# Altium integrated library TI Interface Display Driver.IntLib: 102 symbols (part 1 of 3)
Pins are listed as number, name and electrical type; pins without a type are passive.

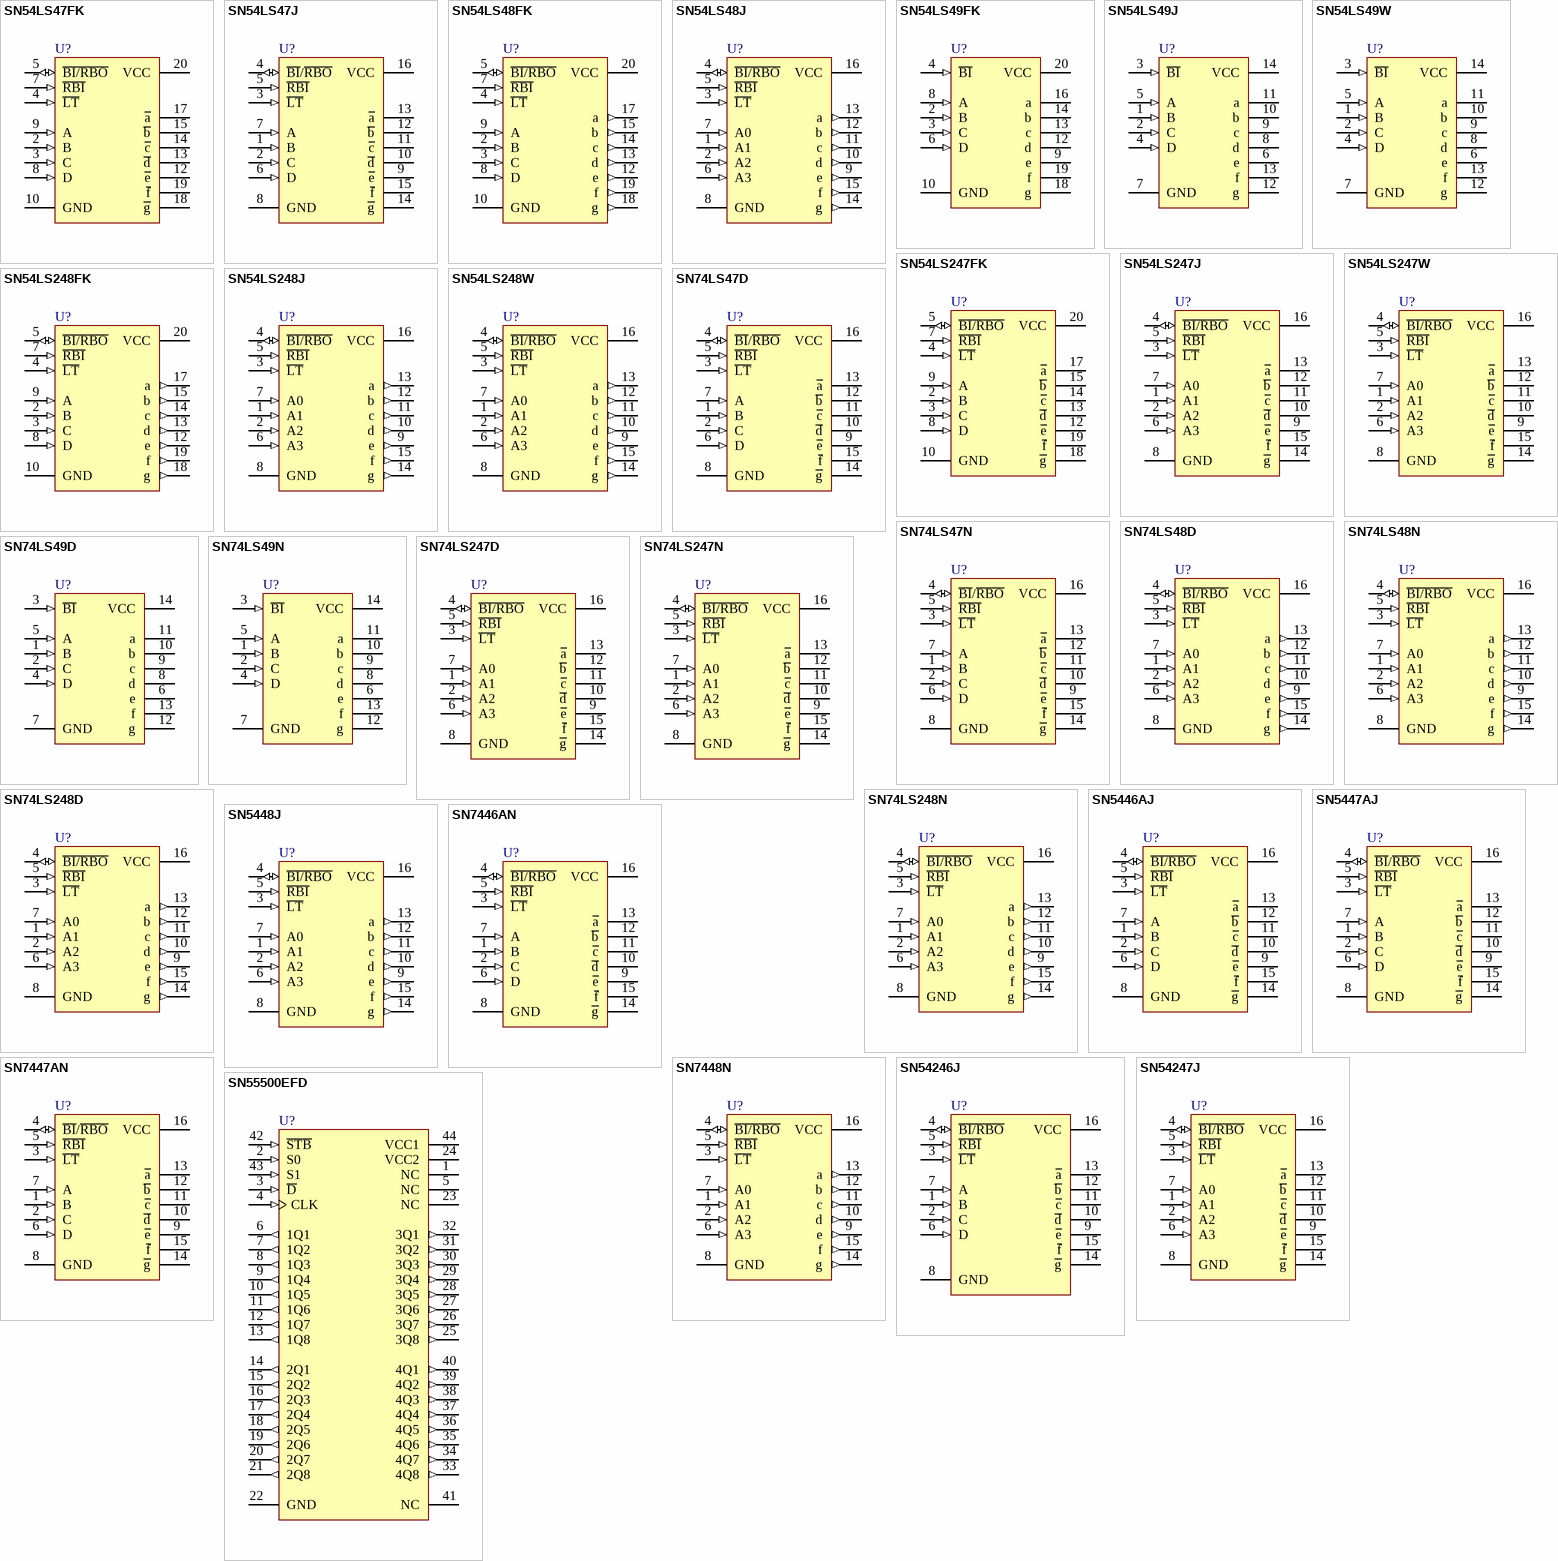
[diagram p0: symbols SN54LS47FK to SN55500EFD]

## SN54LS47FK
designator U?
BCD-to-Seven-Segment Decoder/Driver; Note: Pins 1, 6, 11 and 16 - No Connection and not drawn; Published: 8-Jun-2000; LatestRevisionDate: 29-May-2009; LatestRevisionNote: IPC-7351 Footprint Added.; DatasheetVersion: Mar-1988; PackageVersion: 1998; PackageReference: FK020; Publisher: Altium Limited; PackageDescription: 20-Pin Leadless Chip Carrier 1.27 mm Pitch; Code_JEDEC: MS-004-CB; ComponentLink1Description: Manufacturer Link; ComponentLink1URL: http://www.ti.com/; ComponentLink2Description: Datasheet; ComponentLink2URL: http://www-s.ti.com/sc/ds/sn54ls47.pdf
footprint FK020_N (Leadless Chip Carrier, 20-Leads, Body 8.9x8.9mm, Pitch 1.27mm, IPC Medium Density)
footprint FK020_L (Leadless Chip Carrier, 20-Leads, Body 8.9x8.9mm, Pitch 1.27mm, IPC High Density)
footprint FK020_M (Leadless Chip Carrier, 20-Leads, Body 8.9x8.9mm, Pitch 1.27mm, IPC Low Density)
simulation model SN74LS47 (SIMCODE)
signal-integrity model SN54LS47FK
pins: 2 B (in), 3 C (in), 4 ~{LT} (in), 5 ~{BI/RBO} (io), 7 ~{RBI} (in), 8 D (in), 9 A (in), 10 GND (power), 12 ~{e} (oc), 13 ~{d} (oc), 14 ~{c} (oc), 15 ~{b} (oc), 17 ~{a} (oc), 18 ~{g} (oc), 19 ~{f} (oc), 20 VCC (power)

## SN54LS47J
designator U?
BCD-to-Seven-Segment Decoder/Driver; ComponentAvailability: Obsolete; Published: 8-Jun-2000; LatestRevisionDate: 29-May-2009; LatestRevisionNote: Component Body Added.; DatasheetVersion: Mar-1988; PackageVersion: Jun-1999; PackageReference: J016; Publisher: Altium Limited; PackageDescription: DIP, Ceramic, 16-Pin, Row Spacing 7.62 mm, Pitch 2.54 mm; ComponentLink1Description: Manufacturer Link; ComponentLink1URL: http://www.ti.com/; ComponentLink2Description: Datasheet; ComponentLink2URL: http://www-s.ti.com/sc/ds/sn54ls47.pdf; ComponentLink3Description: URL Link1; ComponentLink3URL: http://focus.ti.com/docs/prod/folders/print/sn54ls47.html
footprint J016 (DIP, 16-Leads, Row Spacing 7.62mm, Pitch 2.54mm, Body 19.56x6.92mm)
3D model J016 (DIP, Ceramic, 16-Pin, Row Spacing 7.62 mm, Pitch 2.54 mm)
simulation model SN74LS47 (SIMCODE)
signal-integrity model SN54LS47J
pins: 1 B (in), 2 C (in), 3 ~{LT} (in), 4 ~{BI}/~{RBO} (io), 5 ~{RBI} (in), 6 D (in), 7 A (in), 8 GND (power), 9 ~{e} (oc), 10 ~{d} (oc), 11 ~{c} (oc), 12 ~{b} (oc), 13 ~{a} (oc), 14 ~{g} (oc), 15 ~{f} (oc), 16 VCC (power)

## SN54LS48FK
designator U?
BCD-to-Seven-Segment Decoder/Driver; Note: Pins 1, 6, 11 and 16 - No Connection and not drawn; Published: 8-Jun-2000; LatestRevisionDate: 29-May-2009; LatestRevisionNote: IPC-7351 Footprint Added.; DatasheetVersion: Mar-1988; PackageVersion: 1998; PackageReference: FK020; Publisher: Altium Limited; PackageDescription: 20-Pin Leadless Chip Carrier 1.27 mm Pitch; Code_JEDEC: MS-004-CB; ComponentLink1Description: Manufacturer Link; ComponentLink1URL: http://www.ti.com/
footprint FK020_N (Leadless Chip Carrier, 20-Leads, Body 8.9x8.9mm, Pitch 1.27mm, IPC Medium Density)
footprint FK020_L (Leadless Chip Carrier, 20-Leads, Body 8.9x8.9mm, Pitch 1.27mm, IPC High Density)
footprint FK020_M (Leadless Chip Carrier, 20-Leads, Body 8.9x8.9mm, Pitch 1.27mm, IPC Low Density)
simulation model SN74LS48 (SIMCODE)
signal-integrity model SN54LS48FK
pins: 2 B (in), 3 C (in), 4 ~{LT} (in), 5 ~{BI/RBO} (io), 7 ~{RBI} (in), 8 D (in), 9 A (in), 10 GND (power), 12 e (out), 13 d (out), 14 c (out), 15 b (out), 17 a (out), 18 g (out), 19 f (out), 20 VCC (power)

## SN54LS48J
designator U?
BCD-to-Seven-Segment Decoder/Driver; ComponentAvailability: Obsolete; Published: 8-Jun-2000; LatestRevisionDate: 29-May-2009; LatestRevisionNote: Component Body Added.; DatasheetVersion: Mar-1988; PackageVersion: Jun-1999; PackageReference: J016; Publisher: Altium Limited; PackageDescription: DIP, Ceramic, 16-Pin, Row Spacing 7.62 mm, Pitch 2.54 mm; ComponentLink1Description: Manufacturer Link; ComponentLink1URL: http://www.ti.com/; ComponentLink2Description: Datasheet; ComponentLink2URL: http://www-s.ti.com/sc/ds/sn54ls48.pdf; ComponentLink3Description: URL Link1; ComponentLink3URL: http://focus.ti.com/docs/prod/folders/print/sn54ls48.html
footprint J016 (DIP, 16-Leads, Row Spacing 7.62mm, Pitch 2.54mm, Body 19.56x6.92mm)
3D model J016 (DIP, Ceramic, 16-Pin, Row Spacing 7.62 mm, Pitch 2.54 mm)
simulation model SN74LS48 (SIMCODE)
signal-integrity model SN54LS48J
pins: 1 A1 (in), 2 A2 (in), 3 ~{LT} (in), 4 ~{BI/RBO} (io), 5 ~{RBI} (in), 6 A3 (in), 7 A0 (in), 8 GND (power), 9 e (out), 10 d (out), 11 c (out), 12 b (out), 13 a (out), 14 g (out), 15 f (out), 16 VCC (power)

## SN54LS49FK
designator U?
BCD-to-Seven-Segment Decoder/Driver; Note: Pins 1, 5, 7, 11, 15 and 17 - No Connection and not drawn; Published: 8-Jun-2000; LatestRevisionDate: 29-May-2009; LatestRevisionNote: IPC-7351 Footprint Added.; DatasheetVersion: Mar-1988; PackageVersion: 1998; PackageReference: FK020; Publisher: Altium Limited; PackageDescription: 20-Pin Leadless Chip Carrier 1.27 mm Pitch; Code_JEDEC: MS-004-CB; ComponentLink1Description: Manufacturer Link; ComponentLink1URL: http://www.ti.com/; ComponentLink2Description: Datasheet; ComponentLink2URL: http://www-s.ti.com/sc/ds/sn54ls49.pdf
footprint FK020_N (Leadless Chip Carrier, 20-Leads, Body 8.9x8.9mm, Pitch 1.27mm, IPC Medium Density)
footprint FK020_L (Leadless Chip Carrier, 20-Leads, Body 8.9x8.9mm, Pitch 1.27mm, IPC High Density)
footprint FK020_M (Leadless Chip Carrier, 20-Leads, Body 8.9x8.9mm, Pitch 1.27mm, IPC Low Density)
signal-integrity model SN54LS49FK
pins: 2 B (in), 3 C (in), 4 ~{BI} (in), 6 D (in), 8 A (in), 9 e (oc), 10 GND (power), 12 d (oc), 13 c (oc), 14 b (oc), 16 a (oc), 18 g (oc), 19 f (oc), 20 VCC (power)

## SN54LS49J
designator U?
BCD-to-Seven-Segment Decoder/Driver; Published: 8-Jun-2000; LatestRevisionDate: 29-May-2009; LatestRevisionNote: Component Body Added.; DatasheetVersion: Mar-1988; PackageVersion: Jun-1999; PackageReference: J014; Publisher: Altium Limited; PackageDescription: DIP, Ceramic, 14-Pin, Row Spacing 7.62 mm, Pitch 2.54 mm; ComponentLink1Description: Manufacturer Link; ComponentLink1URL: http://www.ti.com/; ComponentLink2Description: Datasheet; ComponentLink2URL: http://www-s.ti.com/sc/ds/sn54ls49.pdf; ComponentLink3Description: URL Link1; ComponentLink3URL: http://focus.ti.com/docs/prod/folders/print/sn54ls49.html
footprint J014 (DIP, 14-Leads, Row Spacing 7.62mm, Pitch 2.54mm, Body 19.56x6.92mm)
3D model J014 (DIP, Ceramic, 14-Pin, Row Spacing 7.62 mm, Pitch 2.54 mm)
signal-integrity model SN54LS49J
pins: 1 B (in), 2 C (in), 3 ~{BI} (in), 4 D (in), 5 A (in), 6 e (oc), 7 GND (power), 8 d (oc), 9 c (oc), 10 b (oc), 11 a (oc), 12 g (oc), 13 f (oc), 14 VCC (power)

## SN54LS49W
designator U?
BCD-to-Seven-Segment Decoder/Driver; Published: 8-Jun-2000; LatestRevisionDate: 04-Mar-2005; LatestRevisionNote: Stylized 3D Model Added.; DatasheetVersion: Mar-1988; PackageVersion: Jan-1995; PackageReference: W014; Publisher: Altium Limited; PackageDescription: DFP; 14 Leads; Body 9.9 x 6.6 mm (LxW max); Pitch 1.27 mm; Code_JEDEC: MO-092-AB; ComponentLink1Description: Manufacturer Link; ComponentLink1URL: http://www.ti.com/; ComponentLink2Description: Datasheet; ComponentLink2URL: http://www-s.ti.com/sc/ds/sn54ls49.pdf
footprint W014 (DFP; 14 Leads; Body 9.9 x 6.6 mm (LxW max); Pitch 1.27 mm)
3D model W014 (DFP; 14 Leads; Body 9.9 x 6.6 mm (LxW max); Pitch 1.27 mm)
signal-integrity model SN54LS49W
pins: 1 B (in), 2 C (in), 3 ~{BI} (in), 4 D (in), 5 A (in), 6 e (oc), 7 GND (power), 8 d (oc), 9 c (oc), 10 b (oc), 11 a (oc), 12 g (oc), 13 f (oc), 14 VCC (power)

## SN54LS247FK
designator U?
BCD-to-Seven-Segment Decoder/Driver; Note: Pins 1, 6, 11 and 16 - No Connection and not drawn; ComponentAvailability: Obsolete; Published: 8-Jun-2000; LatestRevisionDate: 29-May-2009; LatestRevisionNote: IPC-7351 Footprint Added.; DatasheetVersion: Mar-1988; PackageVersion: 1998; PackageReference: FK020; Publisher: Altium Limited; PackageDescription: 20-Pin Leadless Chip Carrier 1.27 mm Pitch; Code_JEDEC: MS-004-CB; ComponentLink1Description: Manufacturer Link; ComponentLink1URL: http://www.ti.com/; ComponentLink2Description: Datasheet; ComponentLink2URL: http://www-s.ti.com/sc/ds/sn54ls247.pdf; ComponentLink3Description: URL Link1; ComponentLink3URL: http://focus.ti.com/docs/prod/folders/print/sn54ls247.html
footprint FK020_N (Leadless Chip Carrier, 20-Leads, Body 8.9x8.9mm, Pitch 1.27mm, IPC Medium Density)
footprint FK020_L (Leadless Chip Carrier, 20-Leads, Body 8.9x8.9mm, Pitch 1.27mm, IPC High Density)
footprint FK020_M (Leadless Chip Carrier, 20-Leads, Body 8.9x8.9mm, Pitch 1.27mm, IPC Low Density)
simulation model SN74LS247 (SIMCODE)
signal-integrity model SN54LS247FK
pins: 2 B (in), 3 C (in), 4 ~{LT} (in), 5 ~{BI/RBO} (io), 7 ~{RBI} (in), 8 D (in), 9 A (in), 10 GND (power), 12 ~{e} (oc), 13 ~{d} (oc), 14 ~{c} (oc), 15 ~{b} (oc), 17 ~{a} (oc), 18 ~{g} (oc), 19 ~{f} (oc), 20 VCC (power)

## SN54LS247J
designator U?
BCD-to-Seven-Segment Decoder/Driver; ComponentAvailability: Obsolete; Published: 8-Jun-2000; LatestRevisionDate: 29-May-2009; LatestRevisionNote: Component Body Added.; DatasheetVersion: Mar-1988; PackageVersion: Jun-1999; PackageReference: J016; Publisher: Altium Limited; PackageDescription: DIP, Ceramic, 16-Pin, Row Spacing 7.62 mm, Pitch 2.54 mm; ComponentLink1Description: Manufacturer Link; ComponentLink1URL: http://www.ti.com/; ComponentLink2Description: Datasheet; ComponentLink2URL: http://www-s.ti.com/sc/ds/sn54ls247.pdf; ComponentLink3Description: URL Link1; ComponentLink3URL: http://focus.ti.com/docs/prod/folders/print/sn54ls247.html
footprint J016 (DIP, 16-Leads, Row Spacing 7.62mm, Pitch 2.54mm, Body 19.56x6.92mm)
3D model J016 (DIP, Ceramic, 16-Pin, Row Spacing 7.62 mm, Pitch 2.54 mm)
simulation model SN74LS247 (SIMCODE)
signal-integrity model SN54LS247J
pins: 1 A1 (in), 2 A2 (in), 3 ~{LT} (in), 4 ~{BI/RBO} (io), 5 ~{RBI} (in), 6 A3 (in), 7 A0 (in), 8 GND (power), 9 ~{e} (oc), 10 ~{d} (oc), 11 ~{c} (oc), 12 ~{b} (oc), 13 ~{a} (oc), 14 ~{g} (oc), 15 ~{f} (oc), 16 VCC (power)

## SN54LS247W
designator U?
BCD-to-Seven-Segment Decoder/Driver; ComponentAvailability: Obsolete; Published: 8-Jun-2000; LatestRevisionDate: 04-Mar-2005; LatestRevisionNote: Stylized 3D Model Added.; DatasheetVersion: Mar-1988; PackageVersion: Jan-1995; PackageReference: W016; Publisher: Altium Limited; PackageDescription: DFP; 16 Leads; Body 10.9 x 7.2 mm (LxW max); Pitch 1.27 mm; Code_JEDEC: MO-092-AC; ComponentLink1Description: Manufacturer Link; ComponentLink1URL: http://www.ti.com/; ComponentLink2Description: Datasheet; ComponentLink2URL: http://www-s.ti.com/sc/ds/sn54ls247.pdf; ComponentLink3Description: URL Link1; ComponentLink3URL: http://focus.ti.com/docs/prod/folders/print/sn54ls247.html
footprint W016 (DFP; 16 Leads; Body 10.9 x 7.2 mm (LxW max); Pitch 1.27 mm)
3D model W016 (DFP; 16 Leads; Body 10.9 x 7.2 mm (LxW max); Pitch 1.27 mm)
simulation model SN74LS247 (SIMCODE)
signal-integrity model SN54LS247W
pins: 1 A1 (in), 2 A2 (in), 3 ~{LT} (in), 4 ~{BI/RBO} (io), 5 ~{RBI} (in), 6 A3 (in), 7 A0 (in), 8 GND (power), 9 ~{e} (oc), 10 ~{d} (oc), 11 ~{c} (oc), 12 ~{b} (oc), 13 ~{a} (oc), 14 ~{g} (oc), 15 ~{f} (oc), 16 VCC (power)

## SN54LS248FK
designator U?
BCD-to-Seven-Segment Decoder/Driver; Note: Pins 1, 6, 11 and 16 - No Connection and not drawn; ComponentAvailability: Obsolete; Published: 8-Jun-2000; LatestRevisionDate: 29-May-2009; LatestRevisionNote: IPC-7351 Footprint Added.; DatasheetVersion: Mar-1988; PackageVersion: 1998; PackageReference: FK020; Publisher: Altium Limited; PackageDescription: 20-Pin Leadless Chip Carrier 1.27 mm Pitch; Code_JEDEC: MS-004-CB; ComponentLink1Description: Manufacturer Link; ComponentLink1URL: http://www.ti.com/; ComponentLink2Description: Datasheet; ComponentLink2URL: http://www-s.ti.com/sc/ds/sn54ls247.pdf; ComponentLink3Description: URL Link1; ComponentLink3URL: http://focus.ti.com/docs/prod/folders/print/sn54ls248.html
footprint FK020_N (Leadless Chip Carrier, 20-Leads, Body 8.9x8.9mm, Pitch 1.27mm, IPC Medium Density)
footprint FK020_L (Leadless Chip Carrier, 20-Leads, Body 8.9x8.9mm, Pitch 1.27mm, IPC High Density)
footprint FK020_M (Leadless Chip Carrier, 20-Leads, Body 8.9x8.9mm, Pitch 1.27mm, IPC Low Density)
simulation model SN74LS248 (SIMCODE)
signal-integrity model SN54LS248FK
pins: 2 B (in), 3 C (in), 4 ~{LT} (in), 5 ~{BI/RBO} (io), 7 ~{RBI} (in), 8 D (in), 9 A (in), 10 GND (power), 12 e (out), 13 d (out), 14 c (out), 15 b (out), 17 a (out), 18 g (out), 19 f (out), 20 VCC (power)

## SN54LS248J
designator U?
BCD-to-Seven-Segment Decoder/Driver; ComponentAvailability: Obsolete; Published: 8-Jun-2000; LatestRevisionDate: 29-May-2009; LatestRevisionNote: Component Body Added.; DatasheetVersion: Mar-1988; PackageVersion: Jun-1999; PackageReference: J016; Publisher: Altium Limited; PackageDescription: DIP, Ceramic, 16-Pin, Row Spacing 7.62 mm, Pitch 2.54 mm; ComponentLink1Description: Manufacturer Link; ComponentLink1URL: http://www.ti.com/; ComponentLink2Description: Datasheet; ComponentLink2URL: http://www-s.ti.com/sc/ds/sn54ls247.pdf; ComponentLink3Description: URL Link1; ComponentLink3URL: http://focus.ti.com/docs/prod/folders/print/sn54ls248.html
footprint J016 (DIP, 16-Leads, Row Spacing 7.62mm, Pitch 2.54mm, Body 19.56x6.92mm)
3D model J016 (DIP, Ceramic, 16-Pin, Row Spacing 7.62 mm, Pitch 2.54 mm)
simulation model SN74LS248 (SIMCODE)
signal-integrity model SN54LS248J
pins: 1 A1 (in), 2 A2 (in), 3 ~{LT} (in), 4 ~{BI/RBO} (io), 5 ~{RBI} (in), 6 A3 (in), 7 A0 (in), 8 GND (power), 9 e (out), 10 d (out), 11 c (out), 12 b (out), 13 a (out), 14 g (out), 15 f (out), 16 VCC (power)

## SN54LS248W
designator U?
BCD-to-Seven-Segment Decoder/Driver; ComponentAvailability: Obsolete; Published: 8-Jun-2000; LatestRevisionDate: 04-Mar-2005; LatestRevisionNote: Stylized 3D Model Added.; DatasheetVersion: Mar-1988; PackageVersion: Jan-1995; PackageReference: W016; Publisher: Altium Limited; PackageDescription: DFP; 16 Leads; Body 10.9 x 7.2 mm (LxW max); Pitch 1.27 mm; Code_JEDEC: MO-092-AC; ComponentLink1Description: Manufacturer Link; ComponentLink1URL: http://www.ti.com/; ComponentLink2Description: Datasheet; ComponentLink2URL: http://www-s.ti.com/sc/ds/sn54ls247.pdf; ComponentLink3Description: URL Link1; ComponentLink3URL: http://focus.ti.com/docs/prod/folders/print/sn54ls248.html
footprint W016 (DFP; 16 Leads; Body 10.9 x 7.2 mm (LxW max); Pitch 1.27 mm)
3D model W016 (DFP; 16 Leads; Body 10.9 x 7.2 mm (LxW max); Pitch 1.27 mm)
simulation model SN74LS248 (SIMCODE)
signal-integrity model SN54LS248W
pins: 1 A1 (in), 2 A2 (in), 3 ~{LT} (in), 4 ~{BI/RBO} (io), 5 ~{RBI} (in), 6 A3 (in), 7 A0 (in), 8 GND (power), 9 e (out), 10 d (out), 11 c (out), 12 b (out), 13 a (out), 14 g (out), 15 f (out), 16 VCC (power)

## SN74LS47D
designator U?
BCD-to-Seven-Segment Decoder/Driver; Published: 8-Jun-2000; LatestRevisionDate: 13-Apr-2006; LatestRevisionNote: IPC-7351 Footprint Added.; DatasheetVersion: Mar-1988; PackageVersion: Jan-1998; PackageReference: D016; Publisher: Altium Limited; PackageDescription: 16-Pin Small Outline Integrated Circuit 1.27 mm Pitch; Code_IPC: SOIC127P600-16; ComponentLink1Description: Manufacturer Link; ComponentLink1URL: http://www.ti.com/; ComponentLink2Description: Datasheet; ComponentLink2URL: http://www-s.ti.com/sc/ds/sn74ls47.pdf; ComponentLink3Description: URL Link1; ComponentLink3URL: http://focus.ti.com/docs/prod/folders/print/sn74ls47.html
footprint D016_N (SOIC, 16-Leads, Body 9.9x3.9mm, Pitch 1.27mm, IPC Medium Density)
footprint D016_L (SOIC, 16-Leads, Body 9.9x3.9mm, Pitch 1.27mm, IPC High Density)
footprint D016_M (SOIC, 16-Leads, Body 9.9x3.9mm, Pitch 1.27mm, IPC Low Density)
3D model D016 (16-Pin Small Outline Integrated Circuit 1.27 mm Pitch)
simulation model SN74LS47 (SIMCODE)
signal-integrity model SN74LS47D
pins: 1 B (in), 2 C (in), 3 ~{LT} (in), 4 ~{BI}/~{RBO} (io), 5 ~{RBI} (in), 6 D (in), 7 A (in), 8 GND (power), 9 ~{e} (oc), 10 ~{d} (oc), 11 ~{c} (oc), 12 ~{b} (oc), 13 ~{a} (oc), 14 ~{g} (oc), 15 ~{f} (oc), 16 VCC (power)

## SN74LS47N
designator U?
BCD-to-Seven-Segment Decoder/Driver; Published: 8-Jun-2000; LatestRevisionDate: 29-May-2009; LatestRevisionNote: Component Body Added.; DatasheetVersion: Mar-1988; PackageVersion: Oct-1995; PackageReference: N016; Publisher: Altium Limited; PackageDescription: DIP, 16-Pin, Row Spacing 7.62 mm, Pitch 2.54 mm; Code_JEDEC: MS-001-BB; ComponentLink1Description: Manufacturer Link; ComponentLink1URL: http://www.ti.com/; ComponentLink2Description: Datasheet; ComponentLink2URL: http://www-s.ti.com/sc/ds/sn74ls47.pdf; ComponentLink3Description: URL Link1; ComponentLink3URL: http://focus.ti.com/docs/prod/folders/print/sn74ls47.html
footprint N016 (DIP, 16-Leads, Row Spacing 7.62mm, Pitch 2.54mm, Body 19.31x6.35mm)
3D model N016 (DIP, 16-Pin, Row Spacing 7.62 mm, Pitch 2.54 mm)
simulation model SN74LS47 (SIMCODE)
signal-integrity model SN74LS47N
pins: 1 B (in), 2 C (in), 3 ~{LT} (in), 4 ~{BI}/~{RBO} (io), 5 ~{RBI} (in), 6 D (in), 7 A (in), 8 GND (power), 9 ~{e} (oc), 10 ~{d} (oc), 11 ~{c} (oc), 12 ~{b} (oc), 13 ~{a} (oc), 14 ~{g} (oc), 15 ~{f} (oc), 16 VCC (power)

## SN74LS48D
designator U?
BCD-to-Seven-Segment Decoder/Driver; Published: 8-Jun-2000; LatestRevisionDate: 13-Apr-2006; LatestRevisionNote: IPC-7351 Footprint Added.; DatasheetVersion: Mar-1988; PackageVersion: Jan-1998; PackageReference: D016; Publisher: Altium Limited; PackageDescription: 16-Pin Small Outline Integrated Circuit 1.27 mm Pitch; Code_IPC: SOIC127P600-16; ComponentLink1Description: Manufacturer Link; ComponentLink1URL: http://www.ti.com/
footprint D016_N (SOIC, 16-Leads, Body 9.9x3.9mm, Pitch 1.27mm, IPC Medium Density)
footprint D016_L (SOIC, 16-Leads, Body 9.9x3.9mm, Pitch 1.27mm, IPC High Density)
footprint D016_M (SOIC, 16-Leads, Body 9.9x3.9mm, Pitch 1.27mm, IPC Low Density)
3D model D016 (16-Pin Small Outline Integrated Circuit 1.27 mm Pitch)
simulation model SN74LS48 (SIMCODE)
signal-integrity model SN74LS48D
pins: 1 A1 (in), 2 A2 (in), 3 ~{LT} (in), 4 ~{BI/RBO} (io), 5 ~{RBI} (in), 6 A3 (in), 7 A0 (in), 8 GND (power), 9 e (out), 10 d (out), 11 c (out), 12 b (out), 13 a (out), 14 g (out), 15 f (out), 16 VCC (power)

## SN74LS48N
designator U?
BCD-to-Seven-Segment Decoder/Driver; Published: 8-Jun-2000; LatestRevisionDate: 29-May-2009; LatestRevisionNote: Component Body Added.; DatasheetVersion: Mar-1988; PackageVersion: Oct-1995; PackageReference: N016D; Publisher: Altium Limited; PackageDescription: DIP, 16-Pin, Row Spacing 7.62 mm, Pitch 2.54 mm; Code_JEDEC: MS-001-BB; ComponentLink1Description: Manufacturer Link; ComponentLink1URL: http://www.ti.com/
footprint N016D (DIP, 16-Leads, Row Spacing 7.62mm, Pitch 2.54mm, Body 19.31x6.35mm)
3D model N016 (DIP, 16-Pin, Row Spacing 7.62 mm, Pitch 2.54 mm)
simulation model SN74LS48 (SIMCODE)
signal-integrity model SN74LS48N
pins: 1 A1 (in), 2 A2 (in), 3 ~{LT} (in), 4 ~{BI/RBO} (io), 5 ~{RBI} (in), 6 A3 (in), 7 A0 (in), 8 GND (power), 9 e (out), 10 d (out), 11 c (out), 12 b (out), 13 a (out), 14 g (out), 15 f (out), 16 VCC (power)

## SN74LS49D
designator U?
BCD-to-Seven-Segment Decoder/Driver; Published: 8-Jun-2000; LatestRevisionDate: 13-Apr-2006; LatestRevisionNote: IPC-7351 Footprint Added.; DatasheetVersion: Mar-1988; PackageVersion: Nov-2006; PackageReference: D014; Publisher: Altium Limited; PackageDescription: 14-Pin Small Outline Integrated Circuit 1.27 mm Pitch; Code_JEDEC: MS-012-AB; Code_IPC: SOIC127P600-14; ComponentLink1Description: Manufacturer Link; ComponentLink1URL: http://www.ti.com/; ComponentLink2Description: Datasheet; ComponentLink2URL: http://www-s.ti.com/sc/ds/sn74ls49.pdf; ComponentLink3Description: URL Link1; ComponentLink3URL: http://focus.ti.com/docs/prod/folders/print/sn74ls49.html
footprint D014_N (SOIC, 14-Leads, Body 8.7x3.9mm, Pitch 1.27mm, IPC Medium Density)
footprint D014_L (SOIC, 14-Leads, Body 8.7x3.9mm, Pitch 1.27mm, IPC High Density)
footprint D014_M (SOIC, 14-Leads, Body 8.7x3.9mm, Pitch 1.27mm, IPC Low Density)
3D model D014 (14-Pin Small Outline Integrated Circuit 1.27 mm Pitch)
signal-integrity model SN74LS49D
pins: 1 B (in), 2 C (in), 3 ~{BI} (in), 4 D (in), 5 A (in), 6 e (oc), 7 GND (power), 8 d (oc), 9 c (oc), 10 b (oc), 11 a (oc), 12 g (oc), 13 f (oc), 14 VCC (power)

## SN74LS49N
designator U?
BCD-to-Seven-Segment Decoder/Driver; Published: 8-Jun-2000; LatestRevisionDate: 29-May-2009; LatestRevisionNote: Component Body Added.; DatasheetVersion: Mar-1988; PackageVersion: Oct-1995; PackageReference: N014; Publisher: Altium Limited; PackageDescription: DIP, 14-Pin, Row Spacing 7.62 mm, Pitch 2.54 mm; ComponentLink1Description: Manufacturer Link; ComponentLink1URL: http://www.ti.com/; ComponentLink2Description: Datasheet; ComponentLink2URL: http://www-s.ti.com/sc/ds/sn74ls49.pdf; ComponentLink3Description: URL Link1; ComponentLink3URL: http://focus.ti.com/docs/prod/folders/print/sn74ls49.html
footprint N014 (DIP, 14-Leads, Row Spacing 7.62mm, Pitch 2.54mm, Body 19.31x6.35mm)
3D model N014 (DIP, 14-Pin, Row Spacing 7.62 mm, Pitch 2.54 mm)
signal-integrity model SN74LS49N
pins: 1 B (in), 2 C (in), 3 ~{BI} (in), 4 D (in), 5 A (in), 6 e (oc), 7 GND (power), 8 d (oc), 9 c (oc), 10 b (oc), 11 a (oc), 12 g (oc), 13 f (oc), 14 VCC (power)

## SN74LS247D
designator U?
BCD-to-Seven-Segment Decoder/Driver; Published: 8-Jun-2000; LatestRevisionDate: 13-Apr-2006; LatestRevisionNote: IPC-7351 Footprint Added.; DatasheetVersion: Mar-1988; PackageVersion: Jan-1998; PackageReference: D016; Publisher: Altium Limited; PackageDescription: 16-Pin Small Outline Integrated Circuit 1.27 mm Pitch; Code_IPC: SOIC127P600-16; ComponentLink1Description: Manufacturer Link; ComponentLink1URL: http://www.ti.com/; ComponentLink2Description: Datasheet; ComponentLink2URL: http://www-s.ti.com/sc/ds/sn54ls247.pdf; ComponentLink3Description: URL Link1; ComponentLink3URL: http://focus.ti.com/docs/prod/folders/print/sn74ls247.html
footprint D016_N (SOIC, 16-Leads, Body 9.9x3.9mm, Pitch 1.27mm, IPC Medium Density)
footprint D016_L (SOIC, 16-Leads, Body 9.9x3.9mm, Pitch 1.27mm, IPC High Density)
footprint D016_M (SOIC, 16-Leads, Body 9.9x3.9mm, Pitch 1.27mm, IPC Low Density)
3D model D016 (16-Pin Small Outline Integrated Circuit 1.27 mm Pitch)
simulation model SN74LS247 (SIMCODE)
signal-integrity model SN74LS247D
pins: 1 A1 (in), 2 A2 (in), 3 ~{LT} (in), 4 ~{BI/RBO} (io), 5 ~{RBI} (in), 6 A3 (in), 7 A0 (in), 8 GND (power), 9 ~{e} (oc), 10 ~{d} (oc), 11 ~{c} (oc), 12 ~{b} (oc), 13 ~{a} (oc), 14 ~{g} (oc), 15 ~{f} (oc), 16 VCC (power)

## SN74LS247N
designator U?
BCD-to-Seven-Segment Decoder/Driver; Published: 8-Jun-2000; LatestRevisionDate: 29-May-2009; LatestRevisionNote: Component Body Added.; DatasheetVersion: Mar-1988; PackageVersion: Oct-1995; PackageReference: N016; Publisher: Altium Limited; PackageDescription: DIP, 16-Pin, Row Spacing 7.62 mm, Pitch 2.54 mm; Code_JEDEC: MS-001-BB; ComponentLink1Description: Manufacturer Link; ComponentLink1URL: http://www.ti.com/; ComponentLink2Description: Datasheet; ComponentLink2URL: http://www-s.ti.com/sc/ds/sn54ls247.pdf; ComponentLink3Description: URL Link1; ComponentLink3URL: http://focus.ti.com/docs/prod/folders/print/sn74ls247.html
footprint N016 (DIP, 16-Leads, Row Spacing 7.62mm, Pitch 2.54mm, Body 19.31x6.35mm)
3D model N016 (DIP, 16-Pin, Row Spacing 7.62 mm, Pitch 2.54 mm)
simulation model SN74LS247 (SIMCODE)
signal-integrity model SN74LS247N
pins: 1 A1 (in), 2 A2 (in), 3 ~{LT} (in), 4 ~{BI/RBO} (io), 5 ~{RBI} (in), 6 A3 (in), 7 A0 (in), 8 GND (power), 9 ~{e} (oc), 10 ~{d} (oc), 11 ~{c} (oc), 12 ~{b} (oc), 13 ~{a} (oc), 14 ~{g} (oc), 15 ~{f} (oc), 16 VCC (power)

## SN74LS248D
designator U?
BCD-to-Seven-Segment Decoder/Driver; Published: 8-Jun-2000; LatestRevisionDate: 13-Apr-2006; LatestRevisionNote: IPC-7351 Footprint Added.; DatasheetVersion: Mar-1988; PackageVersion: Jan-1998; PackageReference: D016; Publisher: Altium Limited; PackageDescription: 16-Pin Small Outline Integrated Circuit 1.27 mm Pitch; Code_IPC: SOIC127P600-16; ComponentLink1Description: Manufacturer Link; ComponentLink1URL: http://www.ti.com/; ComponentLink2Description: Datasheet; ComponentLink2URL: http://www-s.ti.com/sc/ds/sn54ls247.pdf; ComponentLink3Description: URL Link1; ComponentLink3URL: http://focus.ti.com/docs/prod/folders/print/sn74ls248.html
footprint D016_N (SOIC, 16-Leads, Body 9.9x3.9mm, Pitch 1.27mm, IPC Medium Density)
footprint D016_L (SOIC, 16-Leads, Body 9.9x3.9mm, Pitch 1.27mm, IPC High Density)
footprint D016_M (SOIC, 16-Leads, Body 9.9x3.9mm, Pitch 1.27mm, IPC Low Density)
3D model D016 (16-Pin Small Outline Integrated Circuit 1.27 mm Pitch)
simulation model SN74LS248 (SIMCODE)
signal-integrity model SN74LS248D
pins: 1 A1 (in), 2 A2 (in), 3 ~{LT} (in), 4 ~{BI/RBO} (io), 5 ~{RBI} (in), 6 A3 (in), 7 A0 (in), 8 GND (power), 9 e (out), 10 d (out), 11 c (out), 12 b (out), 13 a (out), 14 g (out), 15 f (out), 16 VCC (power)

## SN74LS248N
designator U?
BCD-to-Seven-Segment Decoder/Driver; ComponentAvailability: Obsolete; Published: 8-Jun-2000; LatestRevisionDate: 29-May-2009; LatestRevisionNote: Component Body Added.; DatasheetVersion: Mar-1988; PackageVersion: Oct-1995; PackageReference: N016; Publisher: Altium Limited; PackageDescription: DIP, 16-Pin, Row Spacing 7.62 mm, Pitch 2.54 mm; Code_JEDEC: MS-001-BB; ComponentLink1Description: Manufacturer Link; ComponentLink1URL: http://www.ti.com/; ComponentLink2Description: Datasheet; ComponentLink2URL: http://www-s.ti.com/sc/ds/sn54ls247.pdf; ComponentLink3Description: URL Link1; ComponentLink3URL: http://focus.ti.com/docs/prod/folders/print/sn74ls248.html
footprint N016 (DIP, 16-Leads, Row Spacing 7.62mm, Pitch 2.54mm, Body 19.31x6.35mm)
3D model N016 (DIP, 16-Pin, Row Spacing 7.62 mm, Pitch 2.54 mm)
simulation model SN74LS248 (SIMCODE)
signal-integrity model SN74LS248N
pins: 1 A1 (in), 2 A2 (in), 3 ~{LT} (in), 4 ~{BI/RBO} (io), 5 ~{RBI} (in), 6 A3 (in), 7 A0 (in), 8 GND (power), 9 e (out), 10 d (out), 11 c (out), 12 b (out), 13 a (out), 14 g (out), 15 f (out), 16 VCC (power)

## SN5446AJ
designator U?
BCD-to-Seven-Segment Decoder/Driver; ComponentAvailability: Obsolete; Published: 8-Jun-2000; LatestRevisionDate: 29-May-2009; LatestRevisionNote: Component Body Added.; DatasheetVersion: Mar-1988; PackageVersion: Jun-1999; PackageReference: J016; Publisher: Altium Limited; PackageDescription: DIP, Ceramic, 16-Pin, Row Spacing 7.62 mm, Pitch 2.54 mm; ComponentLink1Description: Manufacturer Link; ComponentLink1URL: http://www.ti.com/; ComponentLink2Description: Datasheet; ComponentLink2URL: http://www-s.ti.com/sc/ds/sn5446a.pdf; ComponentLink3Description: URL Link1; ComponentLink3URL: http://focus.ti.com/docs/prod/folders/print/sn5446a.html
footprint J016 (DIP, 16-Leads, Row Spacing 7.62mm, Pitch 2.54mm, Body 19.56x6.92mm)
3D model J016 (DIP, Ceramic, 16-Pin, Row Spacing 7.62 mm, Pitch 2.54 mm)
signal-integrity model SN5446AJ
pins: 1 B (in), 2 C (in), 3 ~{LT} (in), 4 ~{BI/RBO} (io), 5 ~{RBI} (in), 6 D (in), 7 A (in), 8 GND (power), 9 ~{e} (oc), 10 ~{d} (oc), 11 ~{c} (oc), 12 ~{b} (oc), 13 ~{a} (oc), 14 ~{g} (oc), 15 ~{f} (oc), 16 VCC (power)

## SN5447AJ
designator U?
BCD-to-Seven-Segment Decoder/Driver; Published: 8-Jun-2000; LatestRevisionDate: 29-May-2009; LatestRevisionNote: Component Body Added.; DatasheetVersion: Mar-1988; PackageVersion: Jun-1999; PackageReference: J016; Publisher: Altium Limited; PackageDescription: DIP, Ceramic, 16-Pin, Row Spacing 7.62 mm, Pitch 2.54 mm; ComponentLink1Description: Manufacturer Link; ComponentLink1URL: http://www.ti.com/; ComponentLink2Description: Datasheet; ComponentLink2URL: http://www-s.ti.com/sc/ds/sn5447a.pdf
footprint J016 (DIP, 16-Leads, Row Spacing 7.62mm, Pitch 2.54mm, Body 19.56x6.92mm)
3D model J016 (DIP, Ceramic, 16-Pin, Row Spacing 7.62 mm, Pitch 2.54 mm)
signal-integrity model SN5447AJ
pins: 1 B (in), 2 C (in), 3 ~{LT} (in), 4 ~{BI}/~{RBO} (io), 5 ~{RBI} (in), 6 D (in), 7 A (in), 8 GND (power), 9 ~{e} (oc), 10 ~{d} (oc), 11 ~{c} (oc), 12 ~{b} (oc), 13 ~{a} (oc), 14 ~{g} (oc), 15 ~{f} (oc), 16 VCC (power)

## SN5448J
designator U?
BCD-to-Seven-Segment Decoder/Driver; Published: 8-Jun-2000; LatestRevisionDate: 29-May-2009; LatestRevisionNote: Component Body Added.; DatasheetVersion: Mar-1988; PackageVersion: Jun-1999; PackageReference: J016; Publisher: Altium Limited; PackageDescription: DIP, Ceramic, 16-Pin, Row Spacing 7.62 mm, Pitch 2.54 mm; ComponentLink1Description: Manufacturer Link; ComponentLink1URL: http://www.ti.com/; ComponentLink2Description: Datasheet; ComponentLink2URL: http://www-s.ti.com/sc/ds/sn5448.pdf; ComponentLink3Description: URL Link1; ComponentLink3URL: http://focus.ti.com/docs/prod/folders/print/sn5448.html
footprint J016 (DIP, 16-Leads, Row Spacing 7.62mm, Pitch 2.54mm, Body 19.56x6.92mm)
3D model J016 (DIP, Ceramic, 16-Pin, Row Spacing 7.62 mm, Pitch 2.54 mm)
signal-integrity model SN5448J
pins: 1 A1 (in), 2 A2 (in), 3 ~{LT} (in), 4 ~{BI/RBO} (io), 5 ~{RBI} (in), 6 A3 (in), 7 A0 (in), 8 GND (power), 9 e (out), 10 d (out), 11 c (out), 12 b (out), 13 a (out), 14 g (out), 15 f (out), 16 VCC (power)

## SN7446AN
designator U?
BCD-to-Seven-Segment Decoder/Driver; ComponentAvailability: Obsolete; Published: 8-Jun-2000; LatestRevisionDate: 29-May-2009; LatestRevisionNote: Component Body Added.; DatasheetVersion: Mar-1988; PackageVersion: Oct-1995; PackageReference: N016; Publisher: Altium Limited; PackageDescription: DIP, 16-Pin, Row Spacing 7.62 mm, Pitch 2.54 mm; Code_JEDEC: MS-001-BB; ComponentLink1Description: Manufacturer Link; ComponentLink1URL: http://www.ti.com/; ComponentLink2Description: Datasheet; ComponentLink2URL: http://www-s.ti.com/sc/ds/sn7446a.pdf; ComponentLink3Description: URL Link1; ComponentLink3URL: http://focus.ti.com/docs/prod/folders/print/sn7446a.html
footprint N016 (DIP, 16-Leads, Row Spacing 7.62mm, Pitch 2.54mm, Body 19.31x6.35mm)
3D model N016 (DIP, 16-Pin, Row Spacing 7.62 mm, Pitch 2.54 mm)
signal-integrity model SN7446AN
pins: 1 B (in), 2 C (in), 3 ~{LT} (in), 4 ~{BI/RBO} (io), 5 ~{RBI} (in), 6 D (in), 7 A (in), 8 GND (power), 9 ~{e} (oc), 10 ~{d} (oc), 11 ~{c} (oc), 12 ~{b} (oc), 13 ~{a} (oc), 14 ~{g} (oc), 15 ~{f} (oc), 16 VCC (power)

## SN7447AN
designator U?
BCD-to-Seven-Segment Decoder/Driver; Published: 8-Jun-2000; LatestRevisionDate: 29-May-2009; LatestRevisionNote: Component Body Added.; DatasheetVersion: Mar-1988; PackageVersion: Oct-1995; PackageReference: N016; Publisher: Altium Limited; PackageDescription: DIP, 16-Pin, Row Spacing 7.62 mm, Pitch 2.54 mm; Code_JEDEC: MS-001-BB; ComponentLink1Description: Manufacturer Link; ComponentLink1URL: http://www.ti.com/; ComponentLink2Description: Datasheet; ComponentLink2URL: http://www-s.ti.com/sc/ds/sn7447a.pdf; ComponentLink3Description: URL Link1; ComponentLink3URL: http://focus.ti.com/docs/prod/folders/print/sn7447a.html
footprint N016 (DIP, 16-Leads, Row Spacing 7.62mm, Pitch 2.54mm, Body 19.31x6.35mm)
3D model N016 (DIP, 16-Pin, Row Spacing 7.62 mm, Pitch 2.54 mm)
signal-integrity model SN7447AN
pins: 1 B (in), 2 C (in), 3 ~{LT} (in), 4 ~{BI}/~{RBO} (io), 5 ~{RBI} (in), 6 D (in), 7 A (in), 8 GND (power), 9 ~{e} (oc), 10 ~{d} (oc), 11 ~{c} (oc), 12 ~{b} (oc), 13 ~{a} (oc), 14 ~{g} (oc), 15 ~{f} (oc), 16 VCC (power)

## SN7448N
designator U?
BCD-to-Seven-Segment Decoder/Driver; ComponentAvailability: Obsolete; Published: 8-Jun-2000; LatestRevisionDate: 29-May-2009; LatestRevisionNote: Component Body Added.; DatasheetVersion: Mar-1988; PackageVersion: Oct-1995; PackageReference: N016; Publisher: Altium Limited; PackageDescription: DIP, 16-Pin, Row Spacing 7.62 mm, Pitch 2.54 mm; Code_JEDEC: MS-001-BB; ComponentLink1Description: Manufacturer Link; ComponentLink1URL: http://www.ti.com/; ComponentLink2Description: Datasheet; ComponentLink2URL: http://www-s.ti.com/sc/ds/sn7448.pdf; ComponentLink3Description: URL Link1; ComponentLink3URL: http://focus.ti.com/docs/prod/folders/print/sn7448.html
footprint N016 (DIP, 16-Leads, Row Spacing 7.62mm, Pitch 2.54mm, Body 19.31x6.35mm)
3D model N016 (DIP, 16-Pin, Row Spacing 7.62 mm, Pitch 2.54 mm)
signal-integrity model SN7448N
pins: 1 A1 (in), 2 A2 (in), 3 ~{LT} (in), 4 ~{BI/RBO} (io), 5 ~{RBI} (in), 6 A3 (in), 7 A0 (in), 8 GND (power), 9 e (out), 10 d (out), 11 c (out), 12 b (out), 13 a (out), 14 g (out), 15 f (out), 16 VCC (power)

## SN54246J
designator U?
BCD-to-Seven-Segment Decoder/Driver; ComponentAvailability: Obsolete; Published: 8-Jun-2000; LatestRevisionDate: 29-May-2009; LatestRevisionNote: Component Body Added.; DatasheetVersion: Mar-1988; PackageVersion: Jun-1999; PackageReference: J016; Publisher: Altium Limited; PackageDescription: DIP, Ceramic, 16-Pin, Row Spacing 7.62 mm, Pitch 2.54 mm; ComponentLink1Description: Manufacturer Link; ComponentLink1URL: http://www.ti.com/; ComponentLink2Description: Datasheet; ComponentLink2URL: http://www-s.ti.com/sc/ds/sn54ls247.pdf; ComponentLink3Description: URL Link1; ComponentLink3URL: http://focus.ti.com/docs/prod/folders/print/sn54246.html
footprint J016 (DIP, 16-Leads, Row Spacing 7.62mm, Pitch 2.54mm, Body 19.56x6.92mm)
3D model J016 (DIP, Ceramic, 16-Pin, Row Spacing 7.62 mm, Pitch 2.54 mm)
signal-integrity model SN54246J
pins: 1 B (in), 2 C (in), 3 ~{LT} (in), 4 ~{BI/RBO} (io), 5 ~{RBI} (in), 6 D (in), 7 A (in), 8 GND (power), 9 ~{e} (oc), 10 ~{d} (oc), 11 ~{c} (oc), 12 ~{b} (oc), 13 ~{a} (oc), 14 ~{g} (oc), 15 ~{f} (oc), 16 VCC (power)

## SN54247J
designator U?
BCD-to-Seven-Segment Decoder/Driver; ComponentAvailability: Obsolete; Published: 8-Jun-2000; LatestRevisionDate: 29-May-2009; LatestRevisionNote: Component Body Added.; DatasheetVersion: Mar-1988; PackageVersion: Jun-1999; PackageReference: J016; Publisher: Altium Limited; PackageDescription: DIP, Ceramic, 16-Pin, Row Spacing 7.62 mm, Pitch 2.54 mm; ComponentLink1Description: Manufacturer Link; ComponentLink1URL: http://www.ti.com/; ComponentLink2Description: Datasheet; ComponentLink2URL: http://www-s.ti.com/sc/ds/sn54ls247.pdf; ComponentLink3Description: URL Link1; ComponentLink3URL: http://focus.ti.com/docs/prod/folders/print/sn54247.html
footprint J016 (DIP, 16-Leads, Row Spacing 7.62mm, Pitch 2.54mm, Body 19.56x6.92mm)
3D model J016 (DIP, Ceramic, 16-Pin, Row Spacing 7.62 mm, Pitch 2.54 mm)
signal-integrity model SN54247J
pins: 1 A1 (in), 2 A2 (in), 3 ~{LT} (in), 4 ~{BI/RBO} (io), 5 ~{RBI} (in), 6 A3 (in), 7 A0 (in), 8 GND (power), 9 ~{e} (oc), 10 ~{d} (oc), 11 ~{c} (oc), 12 ~{b} (oc), 13 ~{a} (oc), 14 ~{g} (oc), 15 ~{f} (oc), 16 VCC (power)

## SN55500EFD
designator U?
AC Plasma Display Driver; Published: 15-May-2002; DatasheetVersion: May-1990; PackageReference: FD44; Publisher: Altium Limited; PackageDescription: Leadless Chip Carrier; 44 Terminals; Body 16.5 x 16.5 mm; ComponentLink1Description: Manufacturer Link; ComponentLink1URL: http://www.ti.com/
footprint FD44 (Leadless Chip Carrier; 44 Terminals; Body 16.5 x 16.5 mm)
pins: 1 NC, 2 S0 (in), 3 ~{D} (in), 4 CLK (in), 5 NC, 6 1Q1 (out), 7 1Q2 (out), 8 1Q3 (out), 9 1Q4 (out), 10 1Q5 (out), 11 1Q6 (out), 12 1Q7 (out), 13 1Q8 (out), 14 2Q1 (out), 15 2Q2 (out), 16 2Q3 (out), 17 2Q4 (out), 18 2Q5 (out), 19 2Q6 (out), 20 2Q7 (out), 21 2Q8 (out), 22 GND (power), 23 NC, 24 VCC2 (power), 25 3Q8 (out), 26 3Q7 (out), 27 3Q6 (out), 28 3Q5 (out), 29 3Q4 (out), 30 3Q3 (out), 31 3Q2 (out), 32 3Q1 (out), 33 4Q8 (out), 34 4Q7 (out), 35 4Q6 (out), 36 4Q5 (out), 37 4Q4 (out), 38 4Q3 (out), 39 4Q2 (out), 40 4Q1 (out), 41 NC, 42 ~{STB} (in), 43 S1 (in), 44 VCC1 (power)

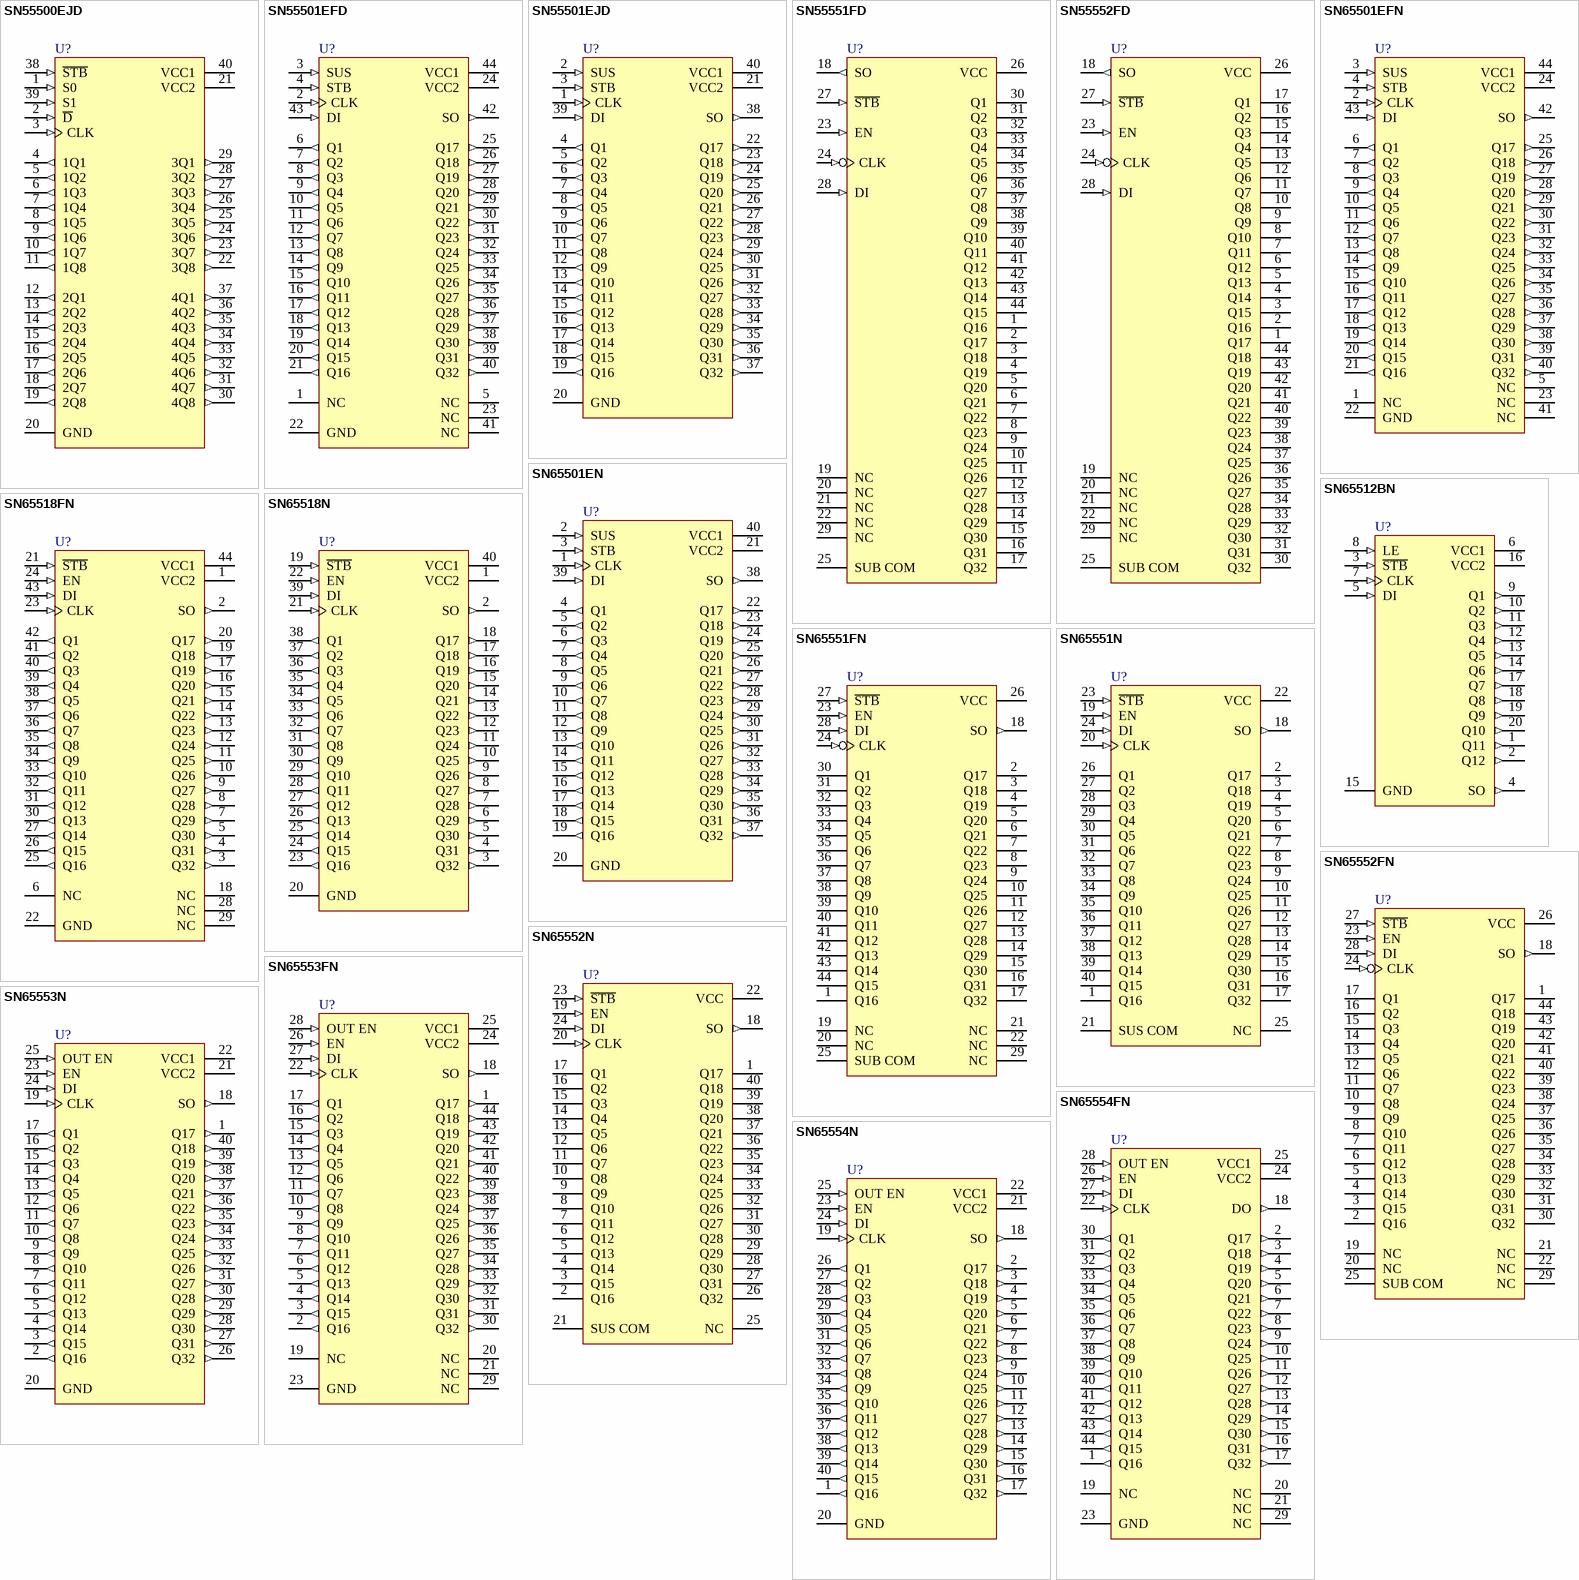
[diagram p1: symbols SN55500EJD to SN65554N]

## SN55500EJD
designator U?
AC Plasma Display Driver; Published: 15-May-2002; LatestRevisionDate: 29-May-2009; LatestRevisionNote: Component Body Added.; DatasheetVersion: May-1990; PackageVersion: Jan-1998; PackageReference: JD040; Publisher: Altium Limited; PackageDescription: DIP, Ceramic, 40-Pin, Row Spacing 15.24 mm, Pitch 2.54 mm; ComponentLink1Description: Manufacturer Link; ComponentLink1URL: http://www.ti.com/
footprint JD040 (DIP, 40-Leads, Row Spacing 15.24mm, Pitch 2.54mm, Body 51.69x15mm)
3D model JD040 (DIP, Ceramic, 40-Pin, Row Spacing 15.24 mm, Pitch 2.54 mm)
pins: 1 S0 (in), 2 ~{D} (in), 3 CLK (in), 4 1Q1 (out), 5 1Q2 (out), 6 1Q3 (out), 7 1Q4 (out), 8 1Q5 (out), 9 1Q6 (out), 10 1Q7 (out), 11 1Q8 (out), 12 2Q1 (out), 13 2Q2 (out), 14 2Q3 (out), 15 2Q4 (out), 16 2Q5 (out), 17 2Q6 (out), 18 2Q7 (out), 19 2Q8 (out), 20 GND (power), 21 VCC2 (power), 22 3Q8 (out), 23 3Q7 (out), 24 3Q6 (out), 25 3Q5 (out), 26 3Q4 (out), 27 3Q3 (out), 28 3Q2 (out), 29 3Q1 (out), 30 4Q8 (out), 31 4Q7 (out), 32 4Q6 (out), 33 4Q5 (out), 34 4Q4 (out), 35 4Q3 (out), 36 4Q2 (out), 37 4Q1 (out), 38 ~{STB} (in), 39 S1 (in), 40 VCC1 (power)

## SN55501EFD
designator U?
AC Plasma Display Driver; Published: 15-May-2002; DatasheetVersion: Dec-1989; PackageReference: FD44; Publisher: Altium Limited; PackageDescription: Leadless Chip Carrier; 44 Terminals; Body 16.5 x 16.5 mm; ComponentLink1Description: Manufacturer Link; ComponentLink1URL: http://www.ti.com/
footprint FD44 (Leadless Chip Carrier; 44 Terminals; Body 16.5 x 16.5 mm)
pins: 1 NC, 2 CLK (in), 3 SUS (in), 4 STB (in), 5 NC, 6 Q1 (out), 7 Q2 (out), 8 Q3 (out), 9 Q4 (out), 10 Q5 (out), 11 Q6 (out), 12 Q7 (out), 13 Q8 (out), 14 Q9 (out), 15 Q10 (out), 16 Q11 (out), 17 Q12 (out), 18 Q13 (out), 19 Q14 (out), 20 Q15 (out), 21 Q16 (out), 22 GND (power), 23 NC, 24 VCC2 (power), 25 Q17 (out), 26 Q18 (out), 27 Q19 (out), 28 Q20 (out), 29 Q21 (out), 30 Q22 (out), 31 Q23 (out), 32 Q24 (out), 33 Q25 (out), 34 Q26 (out), 35 Q27 (out), 36 Q28 (out), 37 Q29 (out), 38 Q30 (out), 39 Q31 (out), 40 Q32 (out), 41 NC, 42 SO (out), 43 DI (in), 44 VCC1 (power)

## SN55501EJD
designator U?
AC Plasma Display Driver; Published: 15-May-2002; LatestRevisionDate: 29-May-2009; LatestRevisionNote: Component Body Added.; DatasheetVersion: Dec-1989; PackageVersion: Jan-1998; PackageReference: JD040; Publisher: Altium Limited; PackageDescription: DIP, Ceramic, 40-Pin, Row Spacing 15.24 mm, Pitch 2.54 mm; ComponentLink1Description: Manufacturer Link; ComponentLink1URL: http://www.ti.com/
footprint JD040 (DIP, 40-Leads, Row Spacing 15.24mm, Pitch 2.54mm, Body 51.69x15mm)
3D model JD040 (DIP, Ceramic, 40-Pin, Row Spacing 15.24 mm, Pitch 2.54 mm)
pins: 1 CLK (in), 2 SUS (in), 3 STB (in), 4 Q1 (out), 5 Q2 (out), 6 Q3 (out), 7 Q4 (out), 8 Q5 (out), 9 Q6 (out), 10 Q7 (out), 11 Q8 (out), 12 Q9 (out), 13 Q10 (out), 14 Q11 (out), 15 Q12 (out), 16 Q13 (out), 17 Q14 (out), 18 Q15 (out), 19 Q16 (out), 20 GND (power), 21 VCC2 (power), 22 Q17 (out), 23 Q18 (out), 24 Q19 (out), 25 Q20 (out), 26 Q21 (out), 27 Q22 (out), 28 Q23 (out), 29 Q24 (out), 30 Q25 (out), 31 Q26 (out), 32 Q27 (out), 33 Q28 (out), 34 Q29 (out), 35 Q30 (out), 36 Q31 (out), 37 Q32 (out), 38 SO (out), 39 DI (in), 40 VCC1 (power)

## SN55551FD
designator U?
Electroluminescent Row Driver; Published: 15-May-2002; DatasheetVersion: Apr-1986; PackageReference: FD44; Publisher: Altium Limited; PackageDescription: Leadless Chip Carrier; 44 Terminals; Body 16.5 x 16.5 mm; ComponentLink1Description: Manufacturer Link; ComponentLink1URL: http://www.ti.com/
footprint FD44 (Leadless Chip Carrier; 44 Terminals; Body 16.5 x 16.5 mm)
pins: 1 Q16 (oc), 2 Q17 (oc), 3 Q18 (oc), 4 Q19 (oc), 5 Q20 (oc), 6 Q21 (oc), 7 Q22 (oc), 8 Q23 (oc), 9 Q24 (oc), 10 Q25 (oc), 11 Q26 (oc), 12 Q27 (oc), 13 Q28 (oc), 14 Q29 (oc), 15 Q30 (oc), 16 Q31 (oc), 17 Q32 (oc), 18 SO (out), 19 NC, 20 NC, 21 NC, 22 NC, 23 EN (in), 24 CLK (in), 25 SUB COM (power), 26 VCC (power), 27 ~{STB} (in), 28 DI (in), 29 NC, 30 Q1 (oc), 31 Q2 (oc), 32 Q3 (oc), 33 Q4 (oc), 34 Q5 (oc), 35 Q6 (oc), 36 Q7 (oc), 37 Q8 (oc), 38 Q9 (oc), 39 Q10 (oc), 40 Q11 (oc), 41 Q12 (oc), 42 Q13 (oc), 43 Q14 (oc), 44 Q15 (oc)

## SN55552FD
designator U?
Electroluminescent Column Driver; Published: 15-May-2002; DatasheetVersion: Apr-1986; PackageReference: FD44; Publisher: Altium Limited; PackageDescription: Leadless Chip Carrier; 44 Terminals; Body 16.5 x 16.5 mm; ComponentLink1Description: Manufacturer Link; ComponentLink1URL: http://www.ti.com/
footprint FD44 (Leadless Chip Carrier; 44 Terminals; Body 16.5 x 16.5 mm)
pins: 1 Q17 (oc), 2 Q16 (oc), 3 Q15 (oc), 4 Q14 (oc), 5 Q13 (oc), 6 Q12 (oc), 7 Q11 (oc), 8 Q10 (oc), 9 Q9 (oc), 10 Q8 (oc), 11 Q7 (oc), 12 Q6 (oc), 13 Q5 (oc), 14 Q4 (oc), 15 Q3 (oc), 16 Q2 (oc), 17 Q1 (oc), 18 SO (out), 19 NC, 20 NC, 21 NC, 22 NC, 23 EN (in), 24 CLK (in), 25 SUB COM (power), 26 VCC (power), 27 ~{STB} (in), 28 DI (in), 29 NC, 30 Q32 (oc), 31 Q31 (oc), 32 Q30 (oc), 33 Q29 (oc), 34 Q28 (oc), 35 Q27 (oc), 36 Q26 (oc), 37 Q25 (oc), 38 Q24 (oc), 39 Q23 (oc), 40 Q22 (oc), 41 Q21 (oc), 42 Q20 (oc), 43 Q19 (oc), 44 Q18 (oc)

## SN65501EFN
designator U?
AC Plasma Display Driver; Published: 15-May-2002; LatestRevisionDate: 13-Apr-2006; LatestRevisionNote: IPC-7351 Footprint Added.; DatasheetVersion: Oct-1989; PackageVersion: Oct-1994; PackageReference: FN044; Publisher: Altium Limited; PackageDescription: 44-Pin Leaded Chip Carrier 1.27 mm Pitch; Code_IPC: PLCC-44; ComponentLink1Description: Manufacturer Link; ComponentLink1URL: http://www.ti.com/
footprint FN044_N (Leaded Chip Carrier, 44-Leads, Body 16.6x16.6mm, Pitch 1.27mm, IPC Medium Density)
footprint FN044_L (Leaded Chip Carrier, 44-Leads, Body 16.6x16.6mm, Pitch 1.27mm, IPC High Density)
footprint FN044_M (Leaded Chip Carrier, 44-Leads, Body 16.6x16.6mm, Pitch 1.27mm, IPC Low Density)
3D model SN65501E-FN044 (44-Pin Leaded Chip Carrier 1.27 mm Pitch)
pins: 1 NC, 2 CLK (in), 3 SUS (in), 4 STB (in), 5 NC, 6 Q1 (out), 7 Q2 (out), 8 Q3 (out), 9 Q4 (out), 10 Q5 (out), 11 Q6 (out), 12 Q7 (out), 13 Q8 (out), 14 Q9 (out), 15 Q10 (out), 16 Q11 (out), 17 Q12 (out), 18 Q13 (out), 19 Q14 (out), 20 Q15 (out), 21 Q16 (out), 22 GND (power), 23 NC, 24 VCC2 (power), 25 Q17 (out), 26 Q18 (out), 27 Q19 (out), 28 Q20 (out), 29 Q21 (out), 30 Q22 (out), 31 Q23 (out), 32 Q24 (out), 33 Q25 (out), 34 Q26 (out), 35 Q27 (out), 36 Q28 (out), 37 Q29 (out), 38 Q30 (out), 39 Q31 (out), 40 Q32 (out), 41 NC, 42 SO (out), 43 DI (in), 44 VCC1 (power)

## SN65501EN
designator U?
AC Plasma Display Driver; Published: 15-May-2002; LatestRevisionDate: 29-May-2009; LatestRevisionNote: Component Body Added.; DatasheetVersion: Oct-1989; PackageVersion: Oct-1994; PackageReference: N040; Publisher: Altium Limited; PackageDescription: DIP, 40-Pin, Row Spacing 15.24 mm, Pitch 2.54 mm; Code_JEDEC: MS-011-AC; ComponentLink1Description: Manufacturer Link; ComponentLink1URL: http://www.ti.com/
footprint N040 (DIP, 40-Leads, Row Spacing 15.24mm, Pitch 2.54mm, Body 52.46x13.72mm)
3D model N040 (DIP, 40-Pin, Row Spacing 15.24 mm, Pitch 2.54 mm)
pins: 1 CLK (in), 2 SUS (in), 3 STB (in), 4 Q1 (out), 5 Q2 (out), 6 Q3 (out), 7 Q4 (out), 8 Q5 (out), 9 Q6 (out), 10 Q7 (out), 11 Q8 (out), 12 Q9 (out), 13 Q10 (out), 14 Q11 (out), 15 Q12 (out), 16 Q13 (out), 17 Q14 (out), 18 Q15 (out), 19 Q16 (out), 20 GND (power), 21 VCC2 (power), 22 Q17 (out), 23 Q18 (out), 24 Q19 (out), 25 Q20 (out), 26 Q21 (out), 27 Q22 (out), 28 Q23 (out), 29 Q24 (out), 30 Q25 (out), 31 Q26 (out), 32 Q27 (out), 33 Q28 (out), 34 Q29 (out), 35 Q30 (out), 36 Q31 (out), 37 Q32 (out), 38 SO (out), 39 DI (in), 40 VCC1 (power)

## SN65512BN
designator U?
Vacuum Fluorescent Display Driver; Published: 15-May-2002; LatestRevisionDate: 29-May-2009; LatestRevisionNote: Component Body Added.; DatasheetVersion: Oct-1989; PackageVersion: Oct-1995; PackageReference: N020; Publisher: Altium Limited; PackageDescription: DIP, 20-Pin, Row Spacing 7.62 mm, Pitch 2.54 mm; ComponentLink1Description: Manufacturer Link; ComponentLink1URL: http://www.ti.com/
footprint N020 (DIP, 20-Leads, Row Spacing 7.62mm, Pitch 2.54mm, Body 24.33x6.35mm)
3D model N020 (DIP, 20-Pin, Row Spacing 7.62 mm, Pitch 2.54 mm)
pins: 1 Q11 (out), 2 Q12 (out), 3 ~{STB} (in), 4 SO (out), 5 DI (in), 6 VCC1 (power), 7 CLK (in), 8 LE (in), 9 Q1 (out), 10 Q2 (out), 11 Q3 (out), 12 Q4 (out), 13 Q5 (out), 14 Q6 (out), 15 GND (power), 16 VCC2 (power), 17 Q7 (out), 18 Q8 (out), 19 Q9 (out), 20 Q10 (out)

## SN65518FN
designator U?
Vacuum Fluorescent Display Driver; Published: 15-May-2002; LatestRevisionDate: 13-Apr-2006; LatestRevisionNote: IPC-7351 Footprint Added.; DatasheetVersion: May-1990; PackageVersion: Oct-1994; PackageReference: FN044; Publisher: Altium Limited; PackageDescription: 44-Pin Leaded Chip Carrier 1.27 mm Pitch; Code_IPC: PLCC-44; ComponentLink1Description: Manufacturer Link; ComponentLink1URL: http://www.ti.com/; ComponentLink2Description: Datasheet; ComponentLink2URL: http://www-s.ti.com/sc/ds/sn75518.pdf
footprint FN044_N (Leaded Chip Carrier, 44-Leads, Body 16.6x16.6mm, Pitch 1.27mm, IPC Medium Density)
footprint FN044_L (Leaded Chip Carrier, 44-Leads, Body 16.6x16.6mm, Pitch 1.27mm, IPC High Density)
footprint FN044_M (Leaded Chip Carrier, 44-Leads, Body 16.6x16.6mm, Pitch 1.27mm, IPC Low Density)
3D model SN65518-FN044 (44-Pin Leaded Chip Carrier 1.27 mm Pitch)
pins: 1 VCC2 (power), 2 SO (out), 3 Q32 (out), 4 Q31 (out), 5 Q30 (out), 6 NC, 7 Q29 (out), 8 Q28 (out), 9 Q27 (out), 10 Q26 (out), 11 Q25 (out), 12 Q24 (out), 13 Q23 (out), 14 Q22 (out), 15 Q21 (out), 16 Q20 (out), 17 Q19 (out), 18 NC, 19 Q18 (out), 20 Q17 (out), 21 ~{STB} (in), 22 GND (power), 23 CLK (in), 24 EN (in), 25 Q16 (out), 26 Q15 (out), 27 Q14 (out), 28 NC, 29 NC, 30 Q13 (out), 31 Q12 (out), 32 Q11 (out), 33 Q10 (out), 34 Q9 (out), 35 Q8 (out), 36 Q7 (out), 37 Q6 (out), 38 Q5 (out), 39 Q4 (out), 40 Q3 (out), 41 Q2 (out), 42 Q1 (out), 43 DI (in), 44 VCC1 (power)

## SN65518N
designator U?
Vacuum Fluorescent Display Driver; Published: 15-May-2002; LatestRevisionDate: 29-May-2009; LatestRevisionNote: Component Body Added.; DatasheetVersion: May-1990; PackageVersion: Oct-1994; PackageReference: N040; Publisher: Altium Limited; PackageDescription: DIP, 40-Pin, Row Spacing 15.24 mm, Pitch 2.54 mm; Code_JEDEC: MS-011-AC; ComponentLink1Description: Manufacturer Link; ComponentLink1URL: http://www.ti.com/; ComponentLink2Description: Datasheet; ComponentLink2URL: http://www-s.ti.com/sc/ds/sn75518.pdf
footprint N040 (DIP, 40-Leads, Row Spacing 15.24mm, Pitch 2.54mm, Body 52.46x13.72mm)
3D model N040 (DIP, 40-Pin, Row Spacing 15.24 mm, Pitch 2.54 mm)
pins: 1 VCC2 (power), 2 SO (out), 3 Q32 (out), 4 Q31 (out), 5 Q30 (out), 6 Q29 (out), 7 Q28 (out), 8 Q27 (out), 9 Q26 (out), 10 Q25 (out), 11 Q24 (out), 12 Q23 (out), 13 Q22 (out), 14 Q21 (out), 15 Q20 (out), 16 Q19 (out), 17 Q18 (out), 18 Q17 (out), 19 ~{STB} (in), 20 GND (power), 21 CLK (in), 22 EN (in), 23 Q16 (out), 24 Q15 (out), 25 Q14 (out), 26 Q13 (out), 27 Q12 (out), 28 Q11 (out), 29 Q10 (out), 30 Q9 (out), 31 Q8 (out), 32 Q7 (out), 33 Q6 (out), 34 Q5 (out), 35 Q4 (out), 36 Q3 (out), 37 Q2 (out), 38 Q1 (out), 39 DI (in), 40 VCC1 (power)

## SN65551FN
designator U?
Electroluminescent Row Driver; Published: 15-May-2002; LatestRevisionDate: 13-Apr-2006; LatestRevisionNote: IPC-7351 Footprint Added.; DatasheetVersion: Oct-1989; PackageVersion: Oct-1994; PackageReference: FN044; Publisher: Altium Limited; PackageDescription: 44-Pin Leaded Chip Carrier 1.27 mm Pitch; Code_IPC: PLCC-44; ComponentLink1Description: Manufacturer Link; ComponentLink1URL: http://www.ti.com/
footprint FN044_N (Leaded Chip Carrier, 44-Leads, Body 16.6x16.6mm, Pitch 1.27mm, IPC Medium Density)
footprint FN044_L (Leaded Chip Carrier, 44-Leads, Body 16.6x16.6mm, Pitch 1.27mm, IPC High Density)
footprint FN044_M (Leaded Chip Carrier, 44-Leads, Body 16.6x16.6mm, Pitch 1.27mm, IPC Low Density)
3D model SN65551-FN044 (44-Pin Leaded Chip Carrier 1.27 mm Pitch)
pins: 1 Q16 (oc), 2 Q17 (oc), 3 Q18 (oc), 4 Q19 (oc), 5 Q20 (oc), 6 Q21 (oc), 7 Q22 (oc), 8 Q23 (oc), 9 Q24 (oc), 10 Q25 (oc), 11 Q26 (oc), 12 Q27 (oc), 13 Q28 (oc), 14 Q29 (oc), 15 Q30 (oc), 16 Q31 (oc), 17 Q32 (oc), 18 SO (out), 19 NC, 20 NC, 21 NC, 22 NC, 23 EN (in), 24 CLK (in), 25 SUB COM (power), 26 VCC (power), 27 ~{STB} (in), 28 DI (in), 29 NC, 30 Q1 (oc), 31 Q2 (oc), 32 Q3 (oc), 33 Q4 (oc), 34 Q5 (oc), 35 Q6 (oc), 36 Q7 (oc), 37 Q8 (oc), 38 Q9 (oc), 39 Q10 (oc), 40 Q11 (oc), 41 Q12 (oc), 42 Q13 (oc), 43 Q14 (oc), 44 Q15 (oc)

## SN65551N
designator U?
Electroluminescent Row Driver; Published: 15-May-2002; LatestRevisionDate: 29-May-2009; LatestRevisionNote: Component Body Added.; DatasheetVersion: Oct-1989; PackageVersion: Oct-1994; PackageReference: N040; Publisher: Altium Limited; PackageDescription: DIP, 40-Pin, Row Spacing 15.24 mm, Pitch 2.54 mm; Code_JEDEC: MS-011-AC; ComponentLink1Description: Manufacturer Link; ComponentLink1URL: http://www.ti.com/
footprint N040 (DIP, 40-Leads, Row Spacing 15.24mm, Pitch 2.54mm, Body 52.46x13.72mm)
3D model N040 (DIP, 40-Pin, Row Spacing 15.24 mm, Pitch 2.54 mm)
pins: 1 Q16 (oc), 2 Q17 (oc), 3 Q18 (oc), 4 Q19 (oc), 5 Q20 (oc), 6 Q21 (oc), 7 Q22 (oc), 8 Q23 (oc), 9 Q24 (oc), 10 Q25 (oc), 11 Q26 (oc), 12 Q27 (oc), 13 Q28 (oc), 14 Q29 (oc), 15 Q30 (oc), 16 Q31 (oc), 17 Q32 (oc), 18 SO (out), 19 EN (in), 20 CLK (in), 21 SUS COM (power), 22 VCC (power), 23 ~{STB} (in), 24 DI (in), 25 NC, 26 Q1 (oc), 27 Q2 (oc), 28 Q3 (oc), 29 Q4 (oc), 30 Q5 (oc), 31 Q6 (oc), 32 Q7 (oc), 33 Q8 (oc), 34 Q9 (oc), 35 Q10 (oc), 36 Q11 (oc), 37 Q12 (oc), 38 Q13 (oc), 39 Q14 (oc), 40 Q15 (oc)